# Altium footprint library E_Tactile_Display.PcbLib: 2 footprints
Each footprint in its own frame and in the unit in brackets; x right, y up, seen from the top. Pads: shape width x height; smd on the part's side, far side on the other; paste and mask are expansions set on the pad; w line width, h text height; cw(c..) or ccw(c..) is an arc to the next point about the centre after c.
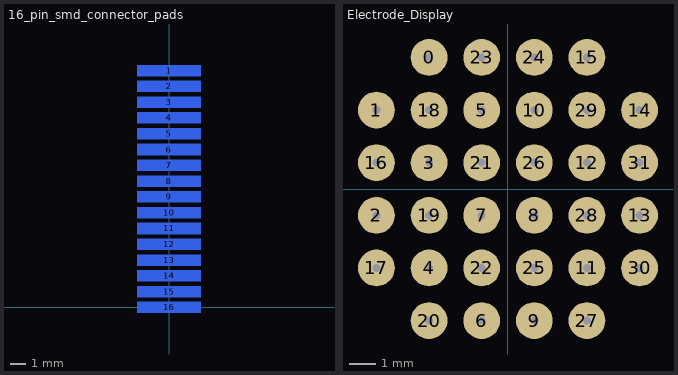
[diagram p0: the footprints below, top view; thin cyan lines are the x and y axes]

## 16_pin_smd_connector_pads [mm]
pads (16):
  rect 4x0.7 smd far side mask+0: 1(0,15) 2(0,14) 3(0,13) 4(0,12) 5(0,11) 6(0,10) 7(0,9) 8(0,8) 9(0,7) 10(0,6) 11(0,5) 12(0,4) 13(0,3) 14(0,2) 15(0,1) 16(0,0)

## Electrode_Display [mm]
pads (32):
  round 1.4 hole 0.3: 0(-3,5) 1(-5,3) 2(-5,-1) 3(-3,1) 4(-3,-3) 5(-1,3) 6(-1,-5) 7(-1,-1) 8(1,-1) 9(1,-5) 10(1,3) 11(3,-3) 12(3,1) 13(5,-1) 14(5,3) 15(3,5) 16(-5,1) 17(-5,-3) 18(-3,3) 19(-3,-1) 20(-3,-5) 21(-1,1) 22(-1,-3) 23(-1,5) 24(1,5) 25(1,-3) 26(1,1) 27(3,-5) 28(3,-1) 29(3,3) 30(5,-3) 31(5,1)